# Altium footprint library transistor-power.PCBLIB: 89 footprints (part 6 of 6)
Each footprint in its own frame and in the unit in brackets; x right, y up, seen from the top. Pads: shape width x height; smd on the part's side, far side on the other; paste and mask are expansions set on the pad; w line width, h text height; cw(c..) or ccw(c..) is an arc to the next point about the centre after c.
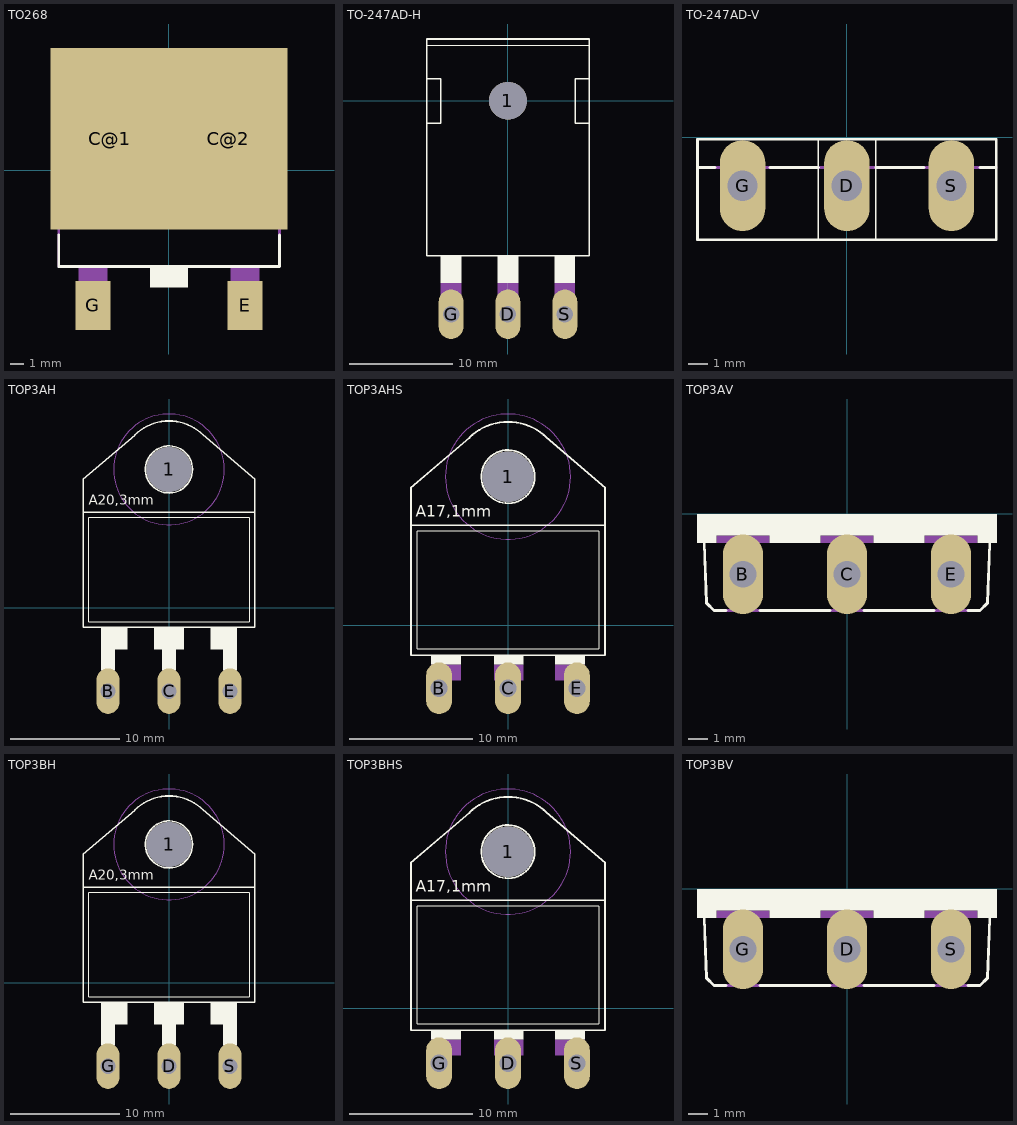
[diagram p5: the footprints below, top view; thin cyan lines are the x and y axes]

## TO268 [mil]
pads (4):
  rect 335x512 smd: C@1(-167.32,89) C@2(168,89)
  rect 99x138 smd: E(215,-381.89) G(-214.57,-381.89)
Top Overlay:
  rectangle: -53.15,-330.71 54,-275.59
  lines w8: -311.02,-183.07 -311.02,-271.65 312,-271.65 312,-183.07
Mechanical 16:
  rectangle: -255.91,-330.71 -173.23,-275.59
  rectangle: 174,-330.71 256,-275.59
  rectangle: 174,-437.01 256,-330.71
  rectangle: -255.91,-437.01 -173.23,-330.71
  lines w8: -311.02,-271.65 -311.02,209 ; 312,-271.65 312,209 ; -311.02,209 -275.59,272 274,272 312,209 ; -311.02,209 -311.02,272 -283.46,317 284,317 312,272 312,209

## TO-247AD-H [mil]
pads (4):
  round 144 hole 144: 1(0,0)
  oval 94.5x189 hole 63: D(0,-812.99) G(-216.54,-812.99) S(217,-812.99)
Top Overlay:
  rectangle: 178,-694.88 256,-590.55
  rectangle: -39.37,-694.88 40,-590.55
  rectangle: -255.91,-694.88 -177.17,-590.55
  lines w2: -307.87,210 308,210
  lines w6: -310,-86.18 -310,-590.55 310,-590.55 310,-86.18 ; -310,-86.18 -310,84 ; -310,-86.18 -255.91,-86.18 -255.91,84 -310,84 ; -310,84 -310,235 310,235 310,84 ; 310,-86.18 256,-86.18 256,84 310,84 ; 310,-86.18 310,84
Mechanical 16:
  rectangle: -255.91,-774.92 -177.17,-694.88
  rectangle: -245,-812.99 -187.01,-774.92
  rectangle: -39.37,-774.92 40,-694.92
  rectangle: -25,-812.99 25,-774.92
  rectangle: 178,-774.92 256,-694.92
  rectangle: 188,-812.99 245,-774.92

## TO-247AD-V [mil]
pads (3):
  oval 94.5x189 hole 63: D(0,-100) G(-216.54,-100) S(217,-100)
Top Overlay:
  lines w3: -59.06,-210.24 -59.06,-62.6 -59.06,-1.57 ; 60,-210.24 60,-62.6 60,-1.57
  lines w6: -307.09,-62.6 -273.62,-62.6 ; -159.45,-62.6 -59.06,-62.6 ; 60,-62.6 160,-62.6 ; 276,-62.6 310,-62.6 ; -310,-212.2 -310,-3.54 310,-3.54 310,-212.2 -310,-212.2
Mechanical 16:
  rectangle: -255.91,-115.75 -177.17,-84.25
  rectangle: -39.37,-115.75 40,-84.25
  rectangle: 178,-115.75 256,-84.25
  lines w6: -310,-62.6 310,-62.6

## TOP3AH [mil]
pads (4):
  round 162 hole 162: 1(0,500)
  oval 82.5x165 hole 55: B(-220,-300) C(0,-300) E(220,-300)
Top Overlay:
  circle w6: c0,500 r85
  rectangle: -245,-150 -150,-70
  rectangle: -55,-150 55,-70
  rectangle: 150,-150 245,-70
  rectangle: -245,-225 -195,-150
  rectangle: -25,-225 25,-150
  rectangle: 195,-225 245,-150
  lines w2: -290,-50 290,-50 290,325 -290,325 -290,-50
  lines w6: -123.74,624 cw(c-0.31,500.13) 0,675 cw(c0.44,499.82) 124,624 ; -123,624 -310,465 -310,345 ; 123,625 310,465 310,345 ; -310,345 -310,-70 310,-70 310,345 ; -310,345 310,345
  text "A20,3mm" at -290,360 h62
Mechanical 9:
  circle w0: c0,500 r200
Mechanical 10:
  circle w0: c0,500 r200
Mechanical 16:
  rectangle: -245,-300 -195,-225
  rectangle: -25,-300 25,-225
  rectangle: 195,-300 245,-225

## TOP3AHS [mil]
pads (4):
  round 162 hole 162: 1(0,475)
  oval 82.5x165 hole 55: B(-220,-200) C(0,-200) E(220,-200)
Top Overlay:
  circle w6: c0,475 r85
  rectangle: -245,-125 -150,-95
  rectangle: -45,-125 50,-95
  rectangle: 150,-125 245,-95
  lines w2: -290,-75 290,-75 290,300 -290,300 -290,-75
  lines w6: -123.74,599 cw(c-0.31,475.13) 0,650 cw(c0.44,474.82) 124,599 ; -123,599 -310,440 -310,320 ; 123,600 310,440 310,320 ; -310,320 -310,-95 310,-95 310,320 ; -310,320 310,320
  text "A17,1mm" at -295,335 h62
Mechanical 9:
  circle w0: c0,475 r200
Mechanical 10:
  circle w0: c0,475 r200
Mechanical 16:
  rectangle: -245,-200 -195,-165
  rectangle: -25,-200 25,-165
  rectangle: 195,-200 245,-165
  rectangle: -245,-175 -150,-125
  rectangle: -45,-175 50,-125
  rectangle: 150,-175 245,-125

## TOP3AV [mil]
pads (3):
  oval 82.5x165 hole 55: B(-215,-125) C(0,-125) E(215,-125)
Top Overlay:
  rectangle: -310,-45 310,0
  rectangle: -310,-60 -270,-45
  rectangle: -160,-60 -55,-45
  rectangle: 55,-60 160,-45
  rectangle: 270,-60 310,-45
  lines w6: -295,-60 -290,-185 -275,-200 -250,-200 ; -180,-200 -35,-200 ; 35,-200 180,-200 ; 250,-200 275,-200 290,-185 295,-60
Mechanical 16:
  rectangle: -270,-60 -160,-45
  rectangle: -55,-60 55,-45
  rectangle: 160,-60 270,-45
  lines w6: -250,-200 -180,-200 ; -35,-200 35,-200 ; 180,-200 250,-200

## TOP3BH [mil]
pads (4):
  round 162 hole 162: 1(0,500)
  oval 82.5x165 hole 55: D(0,-300) G(-220,-300) S(220,-300)
Top Overlay:
  circle w6: c0,500 r85
  rectangle: -245,-150 -150,-70
  rectangle: -55,-150 55,-70
  rectangle: 150,-150 245,-70
  rectangle: -245,-225 -195,-150
  rectangle: -25,-225 25,-150
  rectangle: 195,-225 245,-150
  lines w2: -290,-50 290,-50 290,325 -290,325 -290,-50
  lines w6: -123.74,624 cw(c-0.31,500.13) 0,675 cw(c0.44,499.82) 124,624 ; -123,624 -310,465 -310,345 ; 123,625 310,465 310,345 ; -310,345 -310,-70 310,-70 310,345 ; -310,345 310,345
  text "A20,3mm" at -290,360 h62
Mechanical 9:
  circle w0: c0,500 r200
Mechanical 10:
  circle w0: c0,500 r200
Mechanical 16:
  rectangle: -245,-300 -195,-225
  rectangle: -25,-300 25,-225
  rectangle: 195,-300 245,-225

## TOP3BHS [mil]
pads (4):
  round 162 hole 162: 1(0,500)
  oval 82.5x165 hole 55: D(0,-175) G(-220,-175) S(220,-175)
Top Overlay:
  circle w6: c0,500 r85
  rectangle: -245,-100 -150,-70
  rectangle: -45,-100 50,-70
  rectangle: 150,-100 245,-70
  lines w2: -290,-50 290,-50 290,325 -290,325 -290,-50
  lines w6: -123.74,624 cw(c-0.31,500.13) 0,675 cw(c0.44,499.82) 124,624 ; -123,624 -310,465 -310,345 ; 123,625 310,465 310,345 ; -310,345 -310,-70 310,-70 310,345 ; -310,345 310,345
  text "A17,1mm" at -295,360 h62
Mechanical 9:
  circle w0: c0,500 r200
Mechanical 10:
  circle w0: c0,500 r200
Mechanical 16:
  rectangle: -245,-175 -195,-140
  rectangle: -25,-175 25,-140
  rectangle: 195,-175 245,-140
  rectangle: -245,-150 -150,-100
  rectangle: -45,-150 50,-100
  rectangle: 150,-150 245,-100

## TOP3BV [mil]
pads (3):
  oval 82.5x165 hole 55: D(0,-125) G(-215,-125) S(215,-125)
Top Overlay:
  rectangle: -310,-45 310,0
  rectangle: -310,-60 -270,-45
  rectangle: -160,-60 -55,-45
  rectangle: 55,-60 160,-45
  rectangle: 270,-60 310,-45
  lines w6: -295,-60 -290,-185 -275,-200 -250,-200 ; -180,-200 -35,-200 ; 35,-200 180,-200 ; 250,-200 275,-200 290,-185 295,-60
Mechanical 16:
  rectangle: -270,-60 -160,-45
  rectangle: -55,-60 55,-45
  rectangle: 160,-60 270,-45
  lines w6: -250,-200 -180,-200 ; -35,-200 35,-200 ; 180,-200 250,-200